# EAGLE library part TSW-D-94 (library con-samtec-tsw)
HEADER
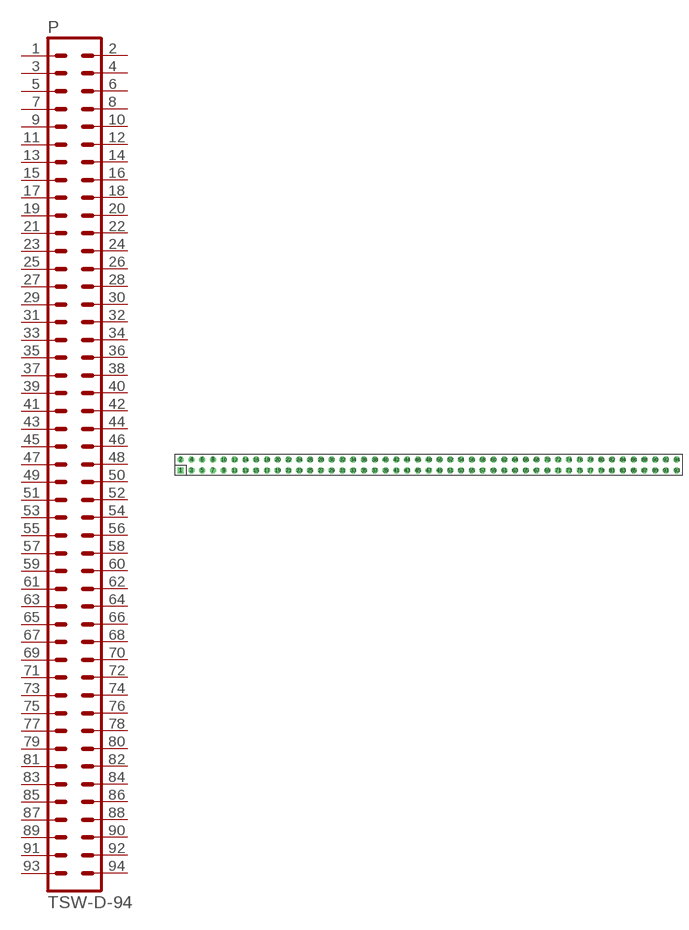
[diagram p134: symbol with the pads of TSW-D-94; footprint TSW-D-94]

Designator prefix P

## TSW-D-94  [TSW-D-94]
1  1  pas
2  2  pas
3  3  pas
4  4  pas
5  5  pas
6  6  pas
7  7  pas
8  8  pas
9  9  pas
10  10  pas
11  11  pas
12  12  pas
13  13  pas
14  14  pas
15  15  pas
16  16  pas
17  17  pas
18  18  pas
19  19  pas
20  20  pas
21  21  pas
22  22  pas
23  23  pas
24  24  pas
25  25  pas
26  26  pas
27  27  pas
28  28  pas
29  29  pas
30  30  pas
31  31  pas
32  32  pas
33  33  pas
34  34  pas
35  35  pas
36  36  pas
37  37  pas
38  38  pas
39  39  pas
40  40  pas
41  41  pas
42  42  pas
43  43  pas
44  44  pas
45  45  pas
46  46  pas
47  47  pas
48  48  pas
49  49  pas
50  50  pas
51  51  pas
52  52  pas
53  53  pas
54  54  pas
55  55  pas
56  56  pas
57  57  pas
58  58  pas
59  59  pas
60  60  pas
61  61  pas
62  62  pas
63  63  pas
64  64  pas
65  65  pas
66  66  pas
67  67  pas
68  68  pas
69  69  pas
70  70  pas
71  71  pas
72  72  pas
73  73  pas
74  74  pas
75  75  pas
76  76  pas
77  77  pas
78  78  pas
79  79  pas
80  80  pas
81  81  pas
82  82  pas
83  83  pas
84  84  pas
85  85  pas
86  86  pas
87  87  pas
88  88  pas
89  89  pas
90  90  pas
91  91  pas
92  92  pas
93  93  pas
94  94  pas

## Footprint TSW-D-94 (pad centres in mm)
HEADER
drill 0.914 square: 1 -58.42,-1.27
drill 0.914 octagon: 2 -58.42,1.27; 3 -55.88,-1.27; 4 -55.88,1.27; 5 -53.34,-1.27; 6 -53.34,1.27; 7 -50.8,-1.27; 8 -50.8,1.27; 9 -48.26,-1.27; 10 -48.26,1.27; 11 -45.72,-1.27; 12 -45.72,1.27; 13 -43.18,-1.27; 14 -43.18,1.27; 15 -40.64,-1.27; 16 -40.64,1.27; 17 -38.1,-1.27; 18 -38.1,1.27; 19 -35.56,-1.27; 20 -35.56,1.27; 21 -33.02,-1.27; 22 -33.02,1.27; 23 -30.48,-1.27; 24 -30.48,1.27; 25 -27.94,-1.27; 26 -27.94,1.27; 27 -25.4,-1.27; 28 -25.4,1.27; 29 -22.86,-1.27; 30 -22.86,1.27; 31 -20.32,-1.27; 32 -20.32,1.27; 33 -17.78,-1.27; 34 -17.78,1.27; 35 -15.24,-1.27; 36 -15.24,1.27; 37 -12.7,-1.27; 38 -12.7,1.27; 39 -10.16,-1.27; 40 -10.16,1.27; 41 -7.62,-1.27; 42 -7.62,1.27; 43 -5.08,-1.27; 44 -5.08,1.27; 45 -2.54,-1.27; 46 -2.54,1.27; 47 0,-1.27; 48 0,1.27; 49 2.54,-1.27; 50 2.54,1.27; 51 5.08,-1.27; 52 5.08,1.27; 53 7.62,-1.27; 54 7.62,1.27; 55 10.16,-1.27; 56 10.16,1.27; 57 12.7,-1.27; 58 12.7,1.27; 59 15.24,-1.27; 60 15.24,1.27; 61 17.78,-1.27; 62 17.78,1.27; 63 20.32,-1.27; 64 20.32,1.27; 65 22.86,-1.27; 66 22.86,1.27; 67 25.4,-1.27; 68 25.4,1.27; 69 27.94,-1.27; 70 27.94,1.27; 71 30.48,-1.27; 72 30.48,1.27; 73 33.02,-1.27; 74 33.02,1.27; 75 35.56,-1.27; 76 35.56,1.27; 77 38.1,-1.27; 78 38.1,1.27; 79 40.64,-1.27; 80 40.64,1.27; 81 43.18,-1.27; 82 43.18,1.27; 83 45.72,-1.27; 84 45.72,1.27; 85 48.26,-1.27; 86 48.26,1.27; 87 50.8,-1.27; 88 50.8,1.27; 89 53.34,-1.27; 90 53.34,1.27; 91 55.88,-1.27; 92 55.88,1.27; 93 58.42,-1.27; 94 58.42,1.27